# Altium footprint library LaserPCB.PcbLib: 69 footprints (part 3 of 5)
Each footprint in its own frame and in the unit in brackets; x right, y up, seen from the top. Pads: shape width x height; smd on the part's side, far side on the other; paste and mask are expansions set on the pad; w line width, h text height; cw(c..) or ccw(c..) is an arc to the next point about the centre after c.
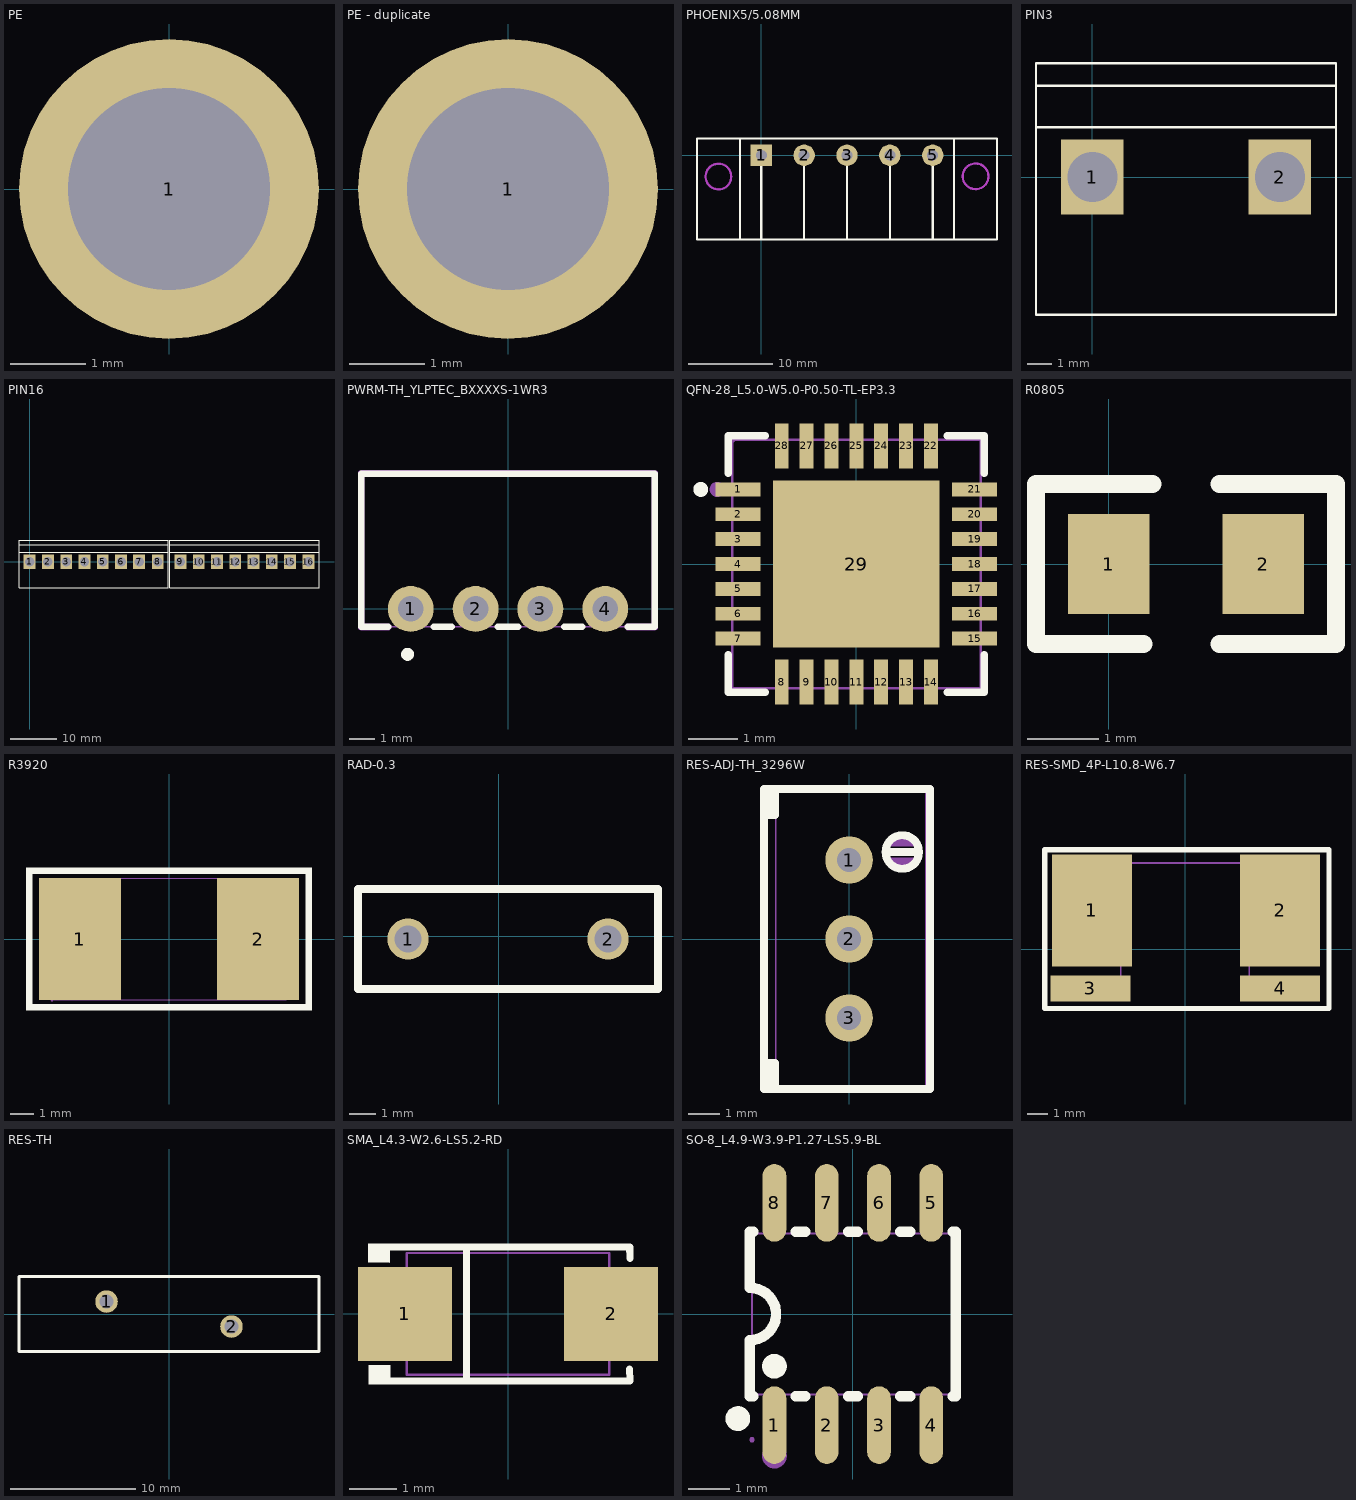
[diagram p2: the footprints below, top view; thin cyan lines are the x and y axes]

## PCBComponent_1 - duplicate1 [mm]

## PE [mm]
pads (1):
  round 4 hole 2.7: 1(0,0)

## PE - duplicate [mm]
pads (1):
  round 4 hole 2.7: 1(0,0)

## PHOENIX5/5.08MM [mil]
pads (5):
  rect 100x100 hole 51: 1(0,0)
  round 100 hole 51: 2(200,0) 3(400,0) 4(600,0) 5(800,0)
Top Overlay:
  lines w10: -100,-393.7 -100,78.74 ; 0,-393.7 0,-45 ; 200,-393.7 200,-45 ; 400,-393.7 400,-45 ; 600,-393.7 600,-45 ; 800,-393.7 800,-45 ; 900,-393.7 900,78.74 ; -300,-393.7 -300,78.74 1100,78.74 1100,-393.7 -300,-393.7
Keep-Out Layer:
  circle w10: c1000,-98.42 r60
  circle w10: c-200,-98.43 r60
Mechanical 1:
  circle w10: c-200,-100 r60
  circle w10: c1000,-98.42 r60

## PIN3 [mil]
pads (2):
  rect 100x120 hole 80: 1(0,0) 2(300,0)
Top Overlay:
  lines w3.94: 85.05,182 390,182 390,-220
  lines w4: -90.38,146 390,146 ; -89.38,80 390,80 ; 85.05,182 -90.38,182 -90.38,-220 390,-220

## PIN16 [mil]
pads (16):
  rect 100x120 hole 80: 1(0,0) 2(155.91,0) 3(311.81,0) 4(467.72,0) 5(623.62,0) 6(779.53,0) 7(933.07,0) 8(1091.34,0) 9(1285,0) 10(1440.91,0) 11(1596.81,0) 12(1752.72,0) 13(1908.62,0) 14(2064.53,0) 15(2218.07,0) 16(2376.34,0)
Top Overlay:
  lines w3.94: 85.05,182 1181.1,182 1181.1,-220 719.62,-220 ; 1370.05,182 2466.1,182 2466.1,-220 2004.62,-220
  lines w4: -90.38,-220 719.62,-220 ; -89.76,-220 -89.76,182 85.05,182 ; -89.76,146 1181.1,146 ; -89.38,80 1181.1,80 ; 1194.62,-220 2004.62,-220 ; 1195.24,-220 1195.24,182 1370.05,182 ; 1195.24,146 2466.1,146 ; 1195.62,80 2466.1,80

## PWRM-TH_YLPTEC_BXXXXS-1WR3 [mm]
pads (4):
  round 1.8 hole 1: 1(-3.81,0) 2(-1.27,0) 3(1.27,0) 4(3.81,0)
Top Overlay:
  circle w0.254: c-3.937,-1.778 r0.127
  lines w0.254: -4.7,-0.7 -5.75,-0.7 -5.75,5.3 5.75,5.3 5.75,-0.7 4.7,-0.7 ; -2.9,-0.7 -2.2,-0.7 ; -0.4,-0.7 0.4,-0.7 ; 2.2,-0.7 2.9,-0.7
Mechanical 6:
  region: 4.7,-0.573 5.623,-0.573 5.623,5.173 -5.623,5.173 -5.623,-0.573 -4.7,-0.573 -4.647,-0.573 -4.573,-0.647 -4.573,-0.753 -4.647,-0.827 -4.7,-0.827 -5.75,-0.827 -5.775,-0.827 -5.822,-0.808 -5.858,-0.772 -5.877,-0.725 -5.877,-0.7 -5.877,5.3 -5.877,5.325 -5.858,5.372 -5.822,5.408 -5.775,5.427 -5.75,5.427 5.75,5.427 5.775,5.427 5.822,5.408 5.858,5.372 5.877,5.325 5.877,5.3 5.877,-0.7 5.877,-0.725 5.858,-0.772 5.822,-0.808 5.775,-0.827 5.75,-0.827 4.7,-0.827 4.647,-0.827 4.573,-0.753 4.573,-0.647 4.647,-0.573
Mechanical 15:
  region: 3.56,0.15 4.06,0.15 4.06,-0.15 3.56,-0.15
  region: 1.02,0.15 1.52,0.15 1.52,-0.15 1.02,-0.15
  region: -1.52,0.15 -1.02,0.15 -1.02,-0.15 -1.52,-0.15
  region: -4.06,0.15 -3.56,0.15 -3.56,-0.15 -4.06,-0.15
  region: -5.69,-0.7 -5.691,-0.676 -5.726,-0.642 -5.774,-0.642 -5.809,-0.676 -5.81,-0.7 -5.809,-0.724 -5.774,-0.758 -5.726,-0.758 -5.691,-0.724
  lines w0.051: -5.75,-0.7 5.75,-0.7 5.75,5.3 -5.75,5.3 -5.75,-0.7

## QFN-28_L5.0-W5.0-P0.50-TL-EP3.3 [mm]
pads (29):
  rect 0.905x0.28 smd paste-100 mask+0.051: 1(-2.377,1.5) 2(-2.377,1) 3(-2.377,0.5) 4(-2.377,0) 5(-2.377,-0.5) 6(-2.377,-1) 7(-2.377,-1.5) 15(2.377,-1.5) 16(2.377,-1) 17(2.377,-0.5) 18(2.377,0) 19(2.377,0.5) 20(2.377,1) 21(2.377,1.5)
  rect 0.28x0.905 smd paste-100 mask+0.051: 8(-1.5,-2.377) 9(-1,-2.377) 10(-0.5,-2.377) 11(0,-2.377) 12(0.5,-2.377) 13(1,-2.377) 14(1.5,-2.377) 22(1.5,2.377) 23(1,2.377) 24(0.5,2.377) 25(0,2.377) 26(-0.5,2.377) 27(-1,2.377) 28(-1.5,2.377)
  rect 3.35x3.35 smd paste-100 mask+0.051: 29(0,0)
Top Overlay:
  circle w0.15: c-3.13,1.5 r0.075
  lines w0.152: -2.576,-1.831 -2.576,-2.576 -1.831,-2.576 ; -2.576,1.831 -2.576,2.576 -1.831,2.576 ; 1.831,-2.576 2.576,-2.576 2.576,-1.831 ; 1.831,2.576 2.576,2.576 2.576,1.831
Top Paste:
  region: -2.83,1.64 -1.925,1.64 -1.925,1.36 -2.83,1.36
  region: -2.83,1.14 -1.925,1.14 -1.925,0.86 -2.83,0.86
  region: -2.83,0.64 -1.925,0.64 -1.925,0.36 -2.83,0.36
  region: -2.83,0.14 -1.925,0.14 -1.925,-0.14 -2.83,-0.14
  region: -2.83,-0.36 -1.925,-0.36 -1.925,-0.64 -2.83,-0.64
  region: -2.83,-0.86 -1.925,-0.86 -1.925,-1.14 -2.83,-1.14
  region: -2.83,-1.36 -1.925,-1.36 -1.925,-1.64 -2.83,-1.64
  region: -1.64,-1.925 -1.36,-1.925 -1.36,-2.83 -1.64,-2.83
  region: -1.14,-1.925 -0.86,-1.925 -0.86,-2.83 -1.14,-2.83
  region: -0.64,-1.925 -0.36,-1.925 -0.36,-2.83 -0.64,-2.83
  region: -0.14,-1.925 0.14,-1.925 0.14,-2.83 -0.14,-2.83
  region: 0.36,-1.925 0.64,-1.925 0.64,-2.83 0.36,-2.83
  region: 0.86,-1.925 1.14,-1.925 1.14,-2.83 0.86,-2.83
  region: 1.36,-1.925 1.64,-1.925 1.64,-2.83 1.36,-2.83
  region: 1.925,-1.36 2.83,-1.36 2.83,-1.64 1.925,-1.64
  region: 1.925,-0.86 2.83,-0.86 2.83,-1.14 1.925,-1.14
  region: 1.925,-0.36 2.83,-0.36 2.83,-0.64 1.925,-0.64
  region: 1.925,0.14 2.83,0.14 2.83,-0.14 1.925,-0.14
  region: 1.925,0.64 2.83,0.64 2.83,0.36 1.925,0.36
  region: 1.925,1.14 2.83,1.14 2.83,0.86 1.925,0.86
  region: 1.925,1.64 2.83,1.64 2.83,1.36 1.925,1.36
  region: 1.36,2.83 1.64,2.83 1.64,1.925 1.36,1.925
  region: 0.86,2.83 1.14,2.83 1.14,1.925 0.86,1.925
  region: 0.36,2.83 0.64,2.83 0.64,1.925 0.36,1.925
  region: -0.14,2.83 0.14,2.83 0.14,1.925 -0.14,1.925
  region: -0.64,2.83 -0.36,2.83 -0.36,1.925 -0.64,1.925
  region: -1.14,2.83 -0.86,2.83 -0.86,1.925 -1.14,1.925
  region: -1.64,2.83 -1.36,2.83 -1.36,1.925 -1.64,1.925
  region: -1.35,1.35 1.35,1.35 1.35,-1.35 -1.35,-1.35
Mechanical 6:
  circle w0.15: c-2.8,1.5 r0.075
Mechanical 15:
  drawing of 34 lines, arcs and shapes, not listed

## R0805 [mil]
pads (2):
  rect 45x55 smd: 1(0,0) 2(85,0)
Top Overlay:
  lines w10: 19,-44 -40,-44 -40,44 24,44 ; 61,-44 125,-44 125,44 61,44
3D body "User Library-RES_2013-0805.step": height 29.92, standoff 0, extent -5.27,-26.57 85.28,26.58

## R3920 [mm]
pads (2):
  rect 3.5x5.2 smd: 1(-3.81,0) 2(3.81,0)
Top Overlay:
  region: -6.096,-3.048 -6.096,3.048 -5.842,3.048 6.096,3.048 6.096,2.794 -5.842,2.794 -5.842,-3.048
  region: 6.096,3.048 6.096,-3.048 5.842,-3.048 5.842,2.794
  region: 5.842,-3.048 -5.842,-3.048 -5.842,-2.794 5.842,-2.794
Mechanical 15:
  region: -4.94,-2.6 -4.941,-2.576 -4.976,-2.542 -5.024,-2.542 -5.059,-2.576 -5.06,-2.6 -5.059,-2.624 -5.024,-2.658 -4.976,-2.658 -4.941,-2.624
  region: -5,2.6 -2.25,2.6 -2.25,-2.6 -5,-2.6
  region: 5,-2.6 2.25,-2.6 2.25,2.6 5,2.6
  lines w0.051: -5,-2.6 5,-2.6 5,2.6 -5,2.6 -5,-2.6

## RAD-0.3 [mil]
pads (2):
  round 62 hole 40: 1(-136.28,-4.39) 2(163.72,-4.39)
Top Overlay:
  lines w12: -211.28,-79.39 238.72,-79.39 238.72,70.61 -211.28,70.61 -211.28,-79.39

## RES-ADJ-TH_3296W [mil]
pads (3):
  round 60 hole 30: 1(0,100) 2(0,0.01) 3(0,-100)
Top Overlay:
  lines w10: 52.36,110.4 67.36,110.4 ; 88.61,110 cw(c67.35,110.2) 46.09,110.2 cw(c67.35,110.2) 88.61,110.4 ; 67.36,110.4 82.36,110.4 67.36,110.4 ; -107.64,-190 -107.64,190 102.36,190 102.36,-190 -107.64,-190 ; -101.58,-187 -101.58,-157 -93.71,-157 -93.71,-187 -101.58,-187 ; -101.58,157.01 -101.58,187.01 -93.71,187.01 -93.71,157.01 -101.58,157.01
Mechanical 6:
  region: 47.45,103.15 48.59,100.11 52.58,94.99 57.92,91.29 64.11,89.35 70.61,89.35 76.8,91.29 82.14,94.99 86.13,100.11 87.27,103.15
  region: 87.27,117.65 86.13,120.69 82.14,125.81 76.81,129.51 70.61,131.45 64.12,131.45 57.92,129.51 52.58,125.81 48.59,120.69 47.45,117.65
Mechanical 15:
  region: 9.84,-100.39 9.84,-102.35 8.34,-105.96 5.57,-108.73 1.96,-110.23 -1.96,-110.23 -5.57,-108.73 -8.34,-105.96 -9.84,-102.35 -9.84,-100.39 -9.84,-98.43 -8.34,-94.82 -5.57,-92.05 -1.96,-90.55 1.96,-90.55 5.57,-92.05 8.34,-94.82 9.84,-98.43
  region: 9.84,0.4 9.84,-1.56 8.34,-5.17 5.57,-7.94 1.96,-9.44 -1.96,-9.44 -5.57,-7.94 -8.34,-5.17 -9.84,-1.56 -9.84,0.4 -9.84,2.36 -8.34,5.97 -5.57,8.74 -1.96,10.24 1.96,10.24 5.57,8.74 8.34,5.97 9.84,2.36
  region: 9.84,100.4 9.84,98.44 8.34,94.83 5.57,92.06 1.96,90.56 -1.96,90.56 -5.57,92.06 -8.34,94.83 -9.84,98.44 -9.84,100.4 -9.84,102.36 -8.34,105.97 -5.57,108.74 -1.96,110.24 1.96,110.24 5.57,108.74 8.34,105.97 9.84,102.36
  region: -90.36,187.6 -90.36,186.62 -91.74,185.24 -93.7,185.24 -95.08,186.62 -95.08,187.6 -95.08,188.58 -93.7,189.96 -91.74,189.96 -90.36,188.58
  lines w2: -92.72,-187.59 -92.72,187.6 97.44,187.6 97.44,-187.59 -92.72,-187.59

## RES-SMD_4P-L10.8-W6.7 [mm]
pads (4):
  rect 4x5.6 smd: 1(-4.671,1.95) 2(4.75,1.95)
  rect 4x1.3 smd: 3(-4.75,-1.95) 4(4.75,-1.95)
Top Overlay:
  lines w0.254: -7.036,4.987 7.188,4.987 ; -7.034,4.909 -7.034,-2.965 7.19,-2.965 7.19,4.909
Mechanical 6:
  circle w0.6: c-5.93,3.76 r0.3
Mechanical 15:
  region: -5.34,4.4 -5.34,4.425 -5.375,4.46 -5.425,4.46 -5.46,4.425 -5.46,4.4 -5.46,4.375 -5.425,4.34 -5.375,4.34 -5.34,4.375
  region: -5.4,4.35 -3.2,4.35 -3.2,-0.55 -5.4,-0.55
  region: 3.2,4.35 5.4,4.35 5.4,-0.55 3.2,-0.55
  region: -5.4,-1.55 -3.2,-1.55 -3.2,-2.25 -5.4,-2.25
  region: 3.2,-1.55 5.4,-1.55 5.4,-2.25 3.2,-2.25
  lines w0.051: -3.23,-2.25 -3.23,4.35 3.2,4.35 3.23,4.35 3.23,-2.25 3.2,-2.25 3.2,4.32 -3.2,4.32 -3.2,-2.25 -3.23,-2.25

## RES-TH [mm]
pads (2):
  round 1.8 hole 1.1: 1(-5,1) 2(5,-1)
Top Overlay:
  lines w0.254: -12,-3 -12,3 12,3 12,-3 -12,-3

## SMA_L4.3-W2.6-LS5.2-RD [mm]
pads (2):
  rect 2x2 smd: 1(-2.2,0) 2(2.2,0)
Top Overlay:
  region: -2.52,1.502 -2.521,1.096 -2.981,1.1 -2.977,1.502
  region: -2.512,-1.096 -2.513,-1.503 -2.973,-1.498 -2.969,-1.096
  lines w0.152: -2.596,-1.426 2.596,-1.426 ; -2.596,1.426 2.596,1.426 2.603,1.187 ; -0.884,-1.426 -0.884,1.426 ; 2.593,-1.176 2.6,-1.415
Mechanical 6:
  region: -2.317,-0.101 -2.317,0.101 -1.507,0.101 -1.507,-0.101
  region: 2.29,-0.09 2.29,0.112 1.48,0.112 1.48,-0.09
  region: 2.014,-0.675 2.014,0.675 1.811,0.675 1.811,-0.675
Mechanical 15:
  region: -2.545,-1.3 -2.546,-1.275 -2.58,-1.241 -2.629,-1.241 -2.664,-1.275 -2.665,-1.3 -2.664,-1.324 -2.63,-1.359 -2.581,-1.359 -2.546,-1.324
  region: 2.605,0.725 2.605,-0.725 1.48,-0.725 1.48,0.725
  region: -1.48,0.725 -1.48,-0.725 -2.605,-0.725 -2.605,0.725
  lines w0.051: -2.16,-1.3 -2.16,1.3 2.16,1.3 2.16,-1.3 -2.16,-1.3

## SO-8_L4.9-W3.9-P1.27-LS5.9-BL [mm]
pads (8):
  oval 0.574x1.888 smd: 1(-1.905,-2.699) 2(-0.635,-2.699) 3(0.635,-2.699) 4(1.905,-2.699) 5(1.905,2.699) 6(0.635,2.699) 7(-0.635,2.699) 8(-1.905,2.699)
Top Overlay:
  circle w0.3: c-2.794,-2.54 r0.15
  circle w0.3: c-1.905,-1.27 r0.15
  lines w0.254: -2.421,-2 -2.5,-2 -2.5,-0.635 ccw(c-2.5,0) -2.499,0.635 -2.5,2 -2.421,2 ; -1.389,-2 -1.151,-2 ; -1.389,2 -1.151,2 ; -0.119,-2 0.119,-2 ; -0.119,2 0.119,2 ; 1.151,-2 1.389,-2 ; 1.151,2 1.389,2 ; 2.421,-2 2.5,-2 2.5,2 2.421,2
Mechanical 6:
  circle w0.3: c-1.905,-3.45 r0.15
Mechanical 15:
  region: 1.7,2.55 1.7,1.945 2.11,1.945 2.11,2.55
  region: 1.7,3.05 1.7,2.54 2.11,2.54 2.11,3.05
  region: 0.43,2.55 0.43,1.945 0.84,1.945 0.84,2.55
  region: 0.43,3.05 0.43,2.54 0.84,2.54 0.84,3.05
  region: -0.84,2.55 -0.84,1.945 -0.43,1.945 -0.43,2.55
  region: -0.84,3.05 -0.84,2.54 -0.43,2.54 -0.43,3.05
  region: -2.11,2.55 -2.11,1.945 -1.7,1.945 -1.7,2.55
  region: -2.11,3.05 -2.11,2.54 -1.7,2.54 -1.7,3.05
  region: 1.7,-2.55 1.7,-1.945 2.11,-1.945 2.11,-2.55
  region: 1.7,-3.05 1.7,-2.54 2.11,-2.54 2.11,-3.05
  region: 0.43,-2.55 0.43,-1.945 0.84,-1.945 0.84,-2.55
  region: 0.43,-3.05 0.43,-2.54 0.84,-2.54 0.84,-3.05
  region: -0.84,-2.55 -0.84,-1.945 -0.43,-1.945 -0.43,-2.55
  region: -0.84,-3.05 -0.84,-2.54 -0.43,-2.54 -0.43,-3.05
  region: -2.11,-2.55 -2.11,-1.945 -1.7,-1.945 -1.7,-2.55
  region: -2.11,-3.05 -2.11,-2.54 -1.7,-2.54 -1.7,-3.05
  region: -2.39,-3.05 -2.39,-3.075 -2.425,-3.11 -2.475,-3.11 -2.51,-3.075 -2.51,-3.05 -2.51,-3.025 -2.475,-2.99 -2.425,-2.99 -2.39,-3.025 -2.39,-3.05
  lines w0.051: -2.45,-1.955 2.45,-1.955 2.45,1.955 -2.45,1.955 -2.45,-1.955